# EAGLE library part WE-LAN_10G_749053011 (library WE-LAN_10G)
WE-LAN 10G Transformer 10Gbit Base-T Characteristics 10G Base-T PoE(+) over 4 pairs up to 150 W Compliant with IEEE standards: 802.3af, 802.3at, 802.3an and 802.3bt Suitable for industrial temperatures: -40°C up to +105°C Applications Office and factory access points Gateways Servers High-speed routers and switches HDBaseT applications <https://www.we-online.com/components/media/o84657v209%20WE-LAN_749050010-749052012_4C%20-%20Kopie.jpg> Details see: www.we-online.com/en/components/products/WE-LAN-10G <www.we-online.com/catalog/WE-LAN-10G/?utm_source=eagle_model&utm_medium=description_link&utm_campaign=eisos_eagle> Updated by Ella Wu 2019-04-18 2019 (C) Würth Elektronik
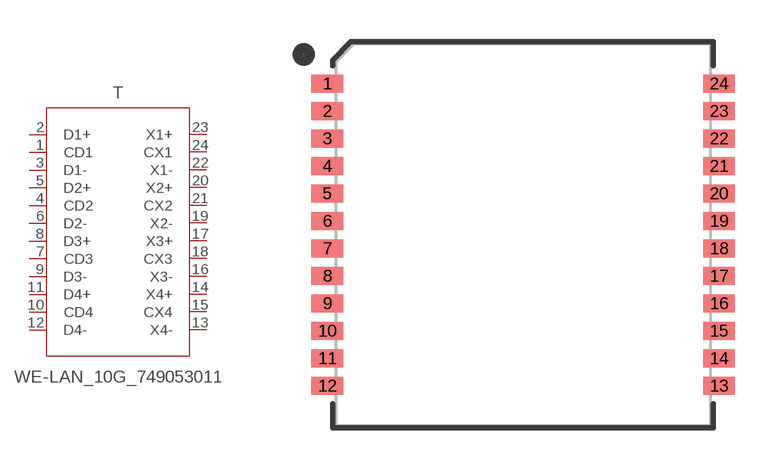
[diagram p3: symbol with the pads of WE-LAN_10G_749053011; footprint WE-LAN_10G_749053011]

Designator prefix T

## WE-LAN_10G_749053011 (DATA-RATE: 10G Base-T; DATASHEET-URL: https://www.we-online.com/redexpert/spec/749053011?ae; IMPROVED-CMRR: No; L: 200uH; MOUNT: SMT; OPERATING-TEMPERATURE: 0 °C up to +70 °C; PART-NUMBER: 749053011; POE: PoE (up to 350 mA); PORTS: 1; VALUE: 200uH; VT: 1500V(RMS))  [WE-LAN_10G_749053011]
1  CD1  pas
2  D1+  pas
3  D1-  pas
4  CD2  pas
5  D2+  pas
6  D2-  pas
7  CD3  pas
8  D3+  pas
9  D3-  pas
10  CD4  pas
11  D4+  pas
12  D4-  pas
13  X4-  pas
14  X4+  pas
15  CX4  pas
16  X3-  pas
17  X3+  pas
18  CX3  pas
19  X2-  pas
20  X2+  pas
21  CX2  pas
22  X1-  pas
23  X1+  pas
24  CX1  pas

## Footprint WE-LAN_10G_749053011 (pad centres in mm)
WE-LAN 10G Transformer 10Gbit Base-T
smd 1.14 x 0.64: 1 -7.05,5.445; 2 -7.05,4.455; 3 -7.05,3.465; 4 -7.05,2.475; 5 -7.05,1.485; 6 -7.05,0.495; 7 -7.05,-0.495; 8 -7.05,-1.485; 9 -7.05,-2.475; 10 -7.05,-3.465; 11 -7.05,-4.455; 12 -7.05,-5.445; 13 7.05,-5.445; 14 7.05,-4.455; 15 7.05,-3.465; 16 7.05,-2.475; 17 7.05,-1.485; 18 7.05,-0.495; 19 7.05,0.495; 20 7.05,1.485; 21 7.05,2.475; 22 7.05,3.465; 23 7.05,4.455; 24 7.05,5.445